# EAGLE library part MIC2039 (library graftel-internal-ic)
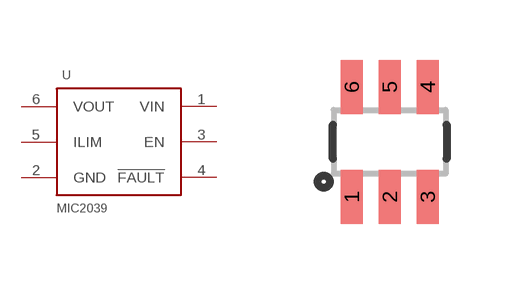
[diagram p16: symbol with the pads of SOT23-6; footprint SOT23-6]

Designator prefix U

## MIC2039  [SOT23-6]
1  VIN
2  GND
3  EN
4  !FAULT
5  ILIM
6  VOUT

## Footprint SOT23-6 (pad centres in mm)
smd 0.55 x 1.35: 1 -0.95,-1.375; 2 0,-1.375; 3 0.95,-1.375; 4 0.95,1.375; 5 0,1.375; 6 -0.95,1.375